# EAGLE library part TA7358 (library ic)
TOSHIBA - FM FRONT-END http://ukradio.info/Degen/TA7358.pdf
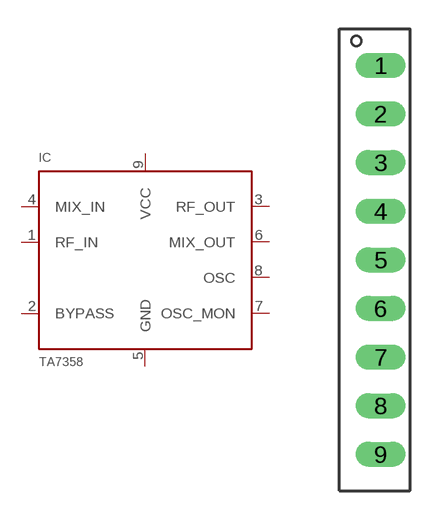
[diagram p22: symbol with the pads of SIP9; footprint SIP9]

Designator prefix IC

## TA7358  [SIP9]
1  RF_IN
2  BYPASS
3  RF_OUT
4  MIX_IN
5  GND
6  MIX_OUT
7  OSC_MON
8  OSC
9  VCC

## Footprint SIP9 (pad centres in mm)
drill 0.8 pad 1.27 long: 1 0,7.62; 2 0,5.08; 3 0,2.54; 4 0,0; 5 0,-2.54; 6 0,-5.08; 7 0,-7.62; 8 0,-10.16; 9 0,-12.7